# EAGLE library part XC878CM (library hsk_2012)
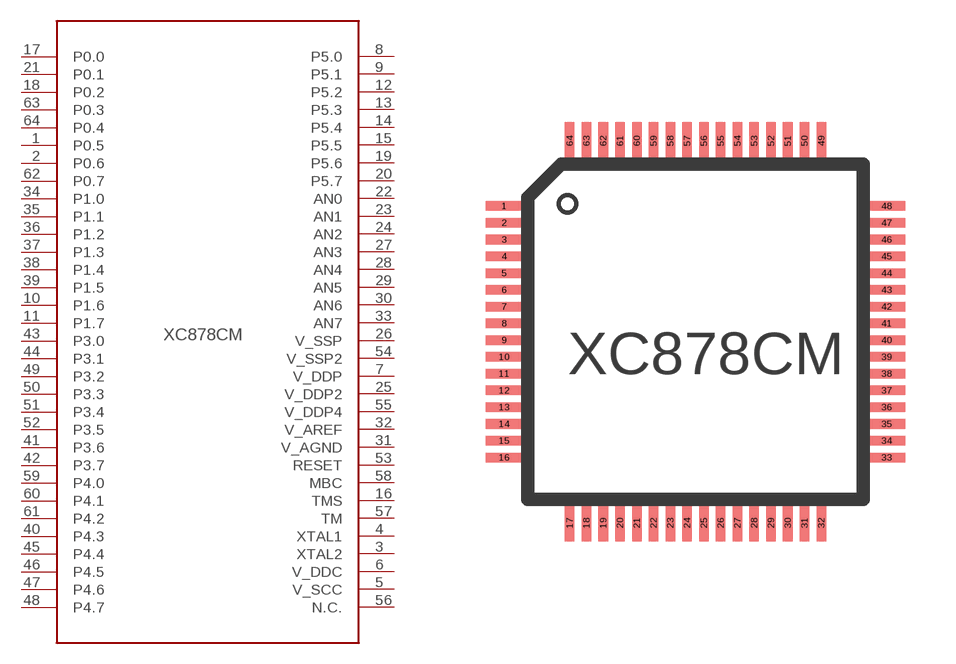
[diagram p22: symbol with the pads of LQFP64; footprint LQFP64]

Designator prefix -

## XC878CM  [LQFP64]
1  P0.5
2  P0.6
3  XTAL2
4  XTAL1
5  V_SCC
6  V_DDC
7  V_DDP
8  P5.0
9  P5.1
10  P1.6
11  P1.7
12  P5.2
13  P5.3
14  P5.4
15  P5.5
16  TMS
17  P0.0
18  P0.2
19  P5.6
20  P5.7
21  P0.1
22  AN0
23  AN1
24  AN2
25  V_DDP2
26  V_SSP
27  AN3
28  AN4
29  AN5
30  AN6
31  V_AGND
32  V_AREF
33  AN7
34  P1.0
35  P1.1
36  P1.2
37  P1.3
38  P1.4
39  P1.5
40  P4.3
41  P3.6
42  P3.7
43  P3.0
44  P3.1
45  P4.4
46  P4.5
47  P4.6
48  P4.7
49  P3.2
50  P3.3
51  P3.4
52  P3.5
53  RESET
54  V_SSP2
55  V_DDP4
56  N.C.
57  TM
58  MBC
59  P4.0
60  P4.1
61  P4.2
62  P0.7
63  P0.3
64  P0.4

## Footprint LQFP64 (pad centres in mm)
Plastic Low Profile Quad Flat Package
smd 1.1 x 0.285: 1 -5.7,3.75; 2 -5.7,3.25; 3 -5.7,2.75; 4 -5.7,2.25; 5 -5.7,1.75; 6 -5.7,1.25; 7 -5.7,0.75; 8 -5.7,0.25; 9 -5.7,-0.25; 10 -5.7,-0.75; 11 -5.7,-1.25; 12 -5.7,-1.75; 13 -5.7,-2.25; 14 -5.7,-2.75; 15 -5.7,-3.25; 16 -5.7,-3.75; 33 5.7,-3.75; 34 5.7,-3.25; 35 5.7,-2.75; 36 5.7,-2.25; 37 5.7,-1.75; 38 5.7,-1.25; 39 5.7,-0.75; 40 5.7,-0.25; 41 5.7,0.25; 42 5.7,0.75; 43 5.7,1.25; 44 5.7,1.75; 45 5.7,2.25; 46 5.7,2.75; 47 5.7,3.25; 48 5.7,3.75
smd 0.285 x 1.1: 17 -3.75,-5.7; 18 -3.25,-5.7; 19 -2.75,-5.7; 20 -2.25,-5.7; 21 -1.75,-5.7; 22 -1.25,-5.7; 23 -0.75,-5.7; 24 -0.25,-5.7; 25 0.25,-5.7; 26 0.75,-5.7; 27 1.25,-5.7; 28 1.75,-5.7; 29 2.25,-5.7; 30 2.75,-5.7; 31 3.25,-5.7; 32 3.75,-5.7; 49 3.75,5.7; 50 3.25,5.7; 51 2.75,5.7; 52 2.25,5.7; 53 1.75,5.7; 54 1.25,5.7; 55 0.75,5.7; 56 0.25,5.7; 57 -0.25,5.7; 58 -0.75,5.7; 59 -1.25,5.7; 60 -1.75,5.7; 61 -2.25,5.7; 62 -2.75,5.7; 63 -3.25,5.7; 64 -3.75,5.7